# Altium footprint library 1_to_5_Pin.PcbLib: 194 footprints (part 3 of 13)
Each footprint in its own frame and in the unit in brackets; x right, y up, seen from the top. Pads: shape width x height; smd on the part's side, far side on the other; paste and mask are expansions set on the pad; w line width, h text height; cw(c..) or ccw(c..) is an arc to the next point about the centre after c.
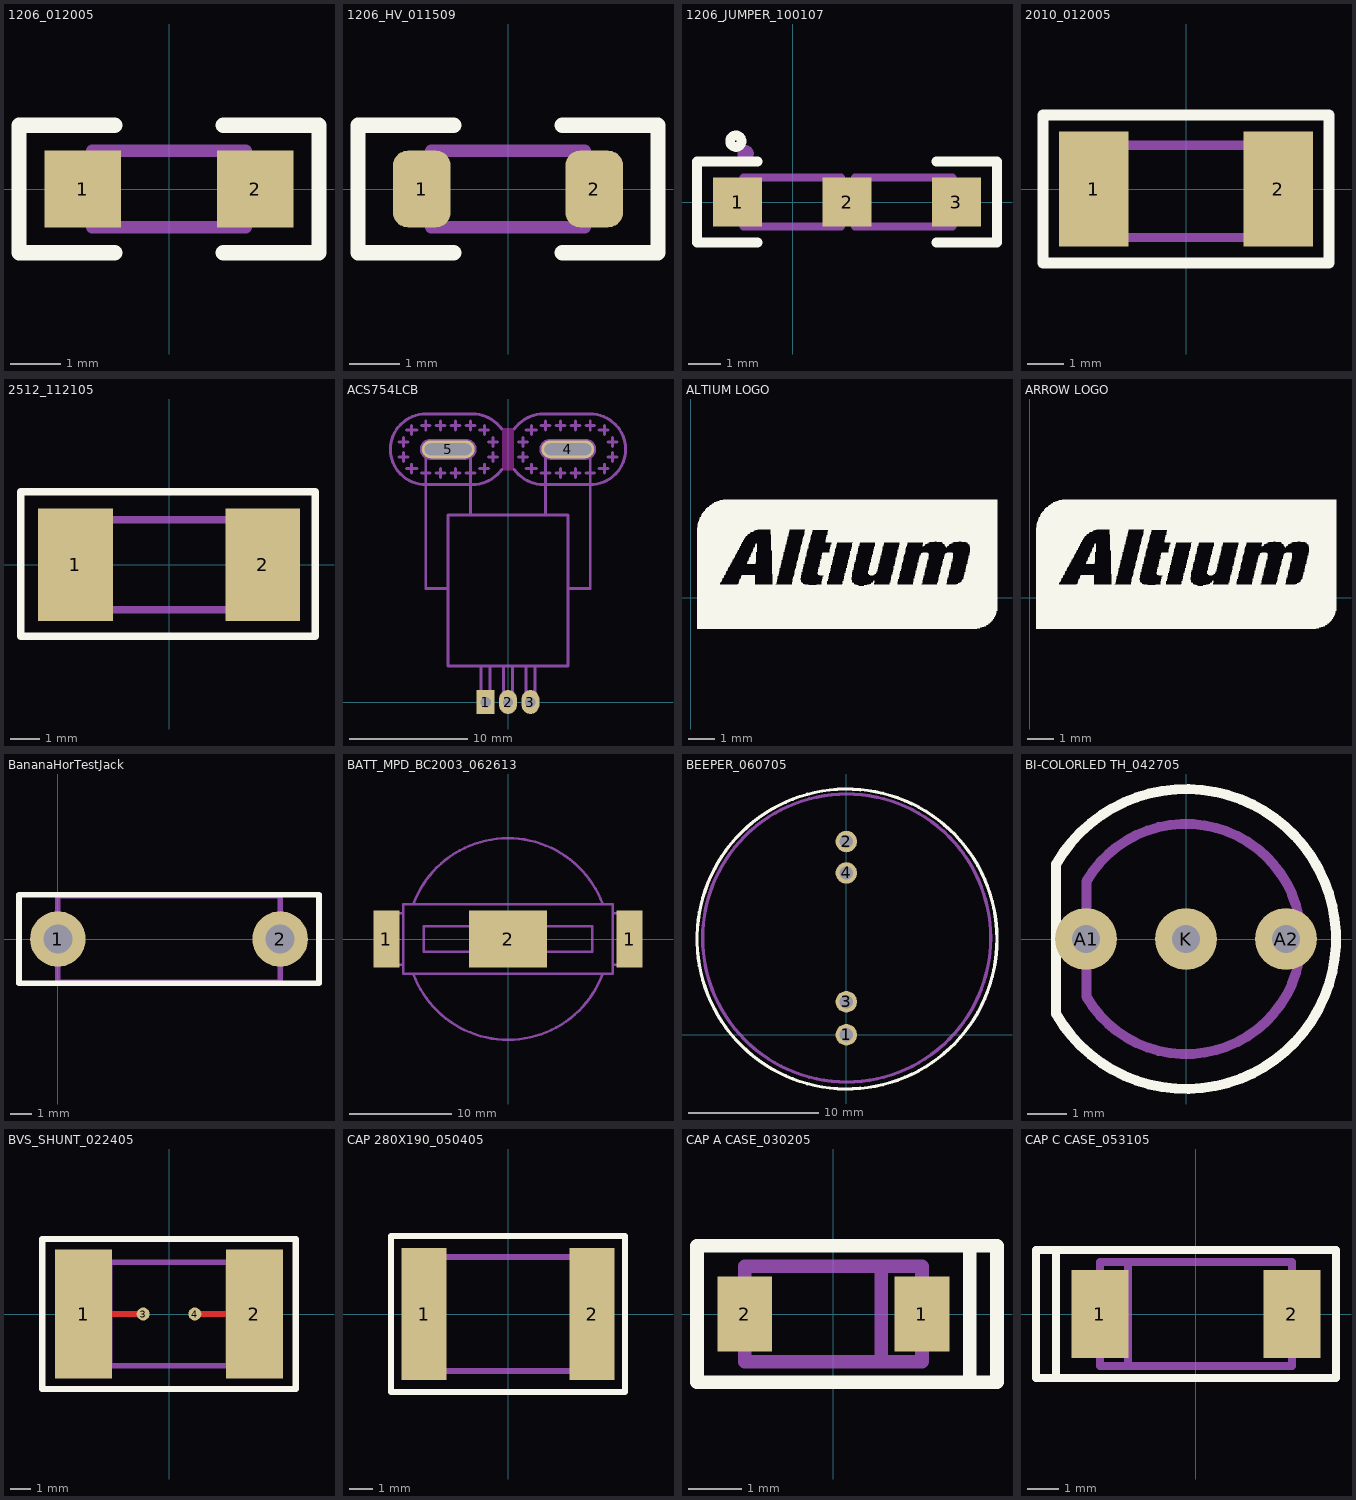
[diagram p2: the footprints below, top view; thin cyan lines are the x and y axes]

## 1206_012005 [mil] "SMT"
height 25
pads (2):
  rect 60x60 smd: 1(-67.5,0) 2(67.5,0)
Top Overlay:
  lines w12: -42.5,-50 -117.5,-50 -117.5,50 -42.5,50 ; 42.5,-50 117.5,-50 117.5,50 42.5,50
Assembly Outline:
  lines w10: -60,-30 -60,30 60,30 60,-30 -60,-30
Assembly Designator:
  text ".Designator" at -50,40 h40
Assembly Comment:
  text ".Comment" at -50,-80 h40

## 1206_HV_011509 [mil] "SMT"
height 25
pads (2):
  rrect50% 45x60 smd: 1(-67.5,0) 2(67.5,0)
Top Overlay:
  lines w12: -42.5,-50 -117.5,-50 -117.5,50 -42.5,50 ; 42.5,-50 117.5,-50 117.5,50 42.5,50
Top Solder:
  rectangle: -95,-40 95,40
Assembly Outline:
  lines w10: -60,-30 60,-30 60,30 -60,30 -60,-30
Assembly Designator:
  text ".Designator" at -50,40 h40
Assembly Comment:
  text ".Comment" at -50,-80 h40

## 1206_JUMPER_100107 [mil] "SMT"
height 25
pads (3):
  rect 60x60 smd: 1(-68,0) 2(67,0) 3(202,0)
Top Overlay:
  circle w12: c-70.07,75 r7.07
  lines w12: -43,-50 -118,-50 -118,50 -43,50 ; 177,-50 252,-50 252,50 177,50
Assembly Outline:
  circle w10: c-58,60 r5
  lines w10: -60.5,-30 59.5,-30 59.5,30 -60.5,30 -60.5,-30 ; 77,-30 77,30 197,30 197,-30 77,-30
Assembly Designator:
  text ".Designator" at -43,55 h40
Assembly Comment:
  text ".Comment" at -58,-85 h40

## 2010_012005 [mil] "SMT"
height 50
pads (2):
  rect 75x125 smd: 1(-100,0) 2(100,0)
Top Overlay:
  lines w12: -155,-80 -155,80 -60,80 155,80 155,-80 -155,-80
Assembly Outline:
  lines w10: -100,-52.5 100,-52.5 100,47.5 -100,47.5 -100,-52.5
Assembly Designator:
  text ".Designator" at -55,-15 h40
Assembly Comment:
  text ".Comment" at -150,-105 h40

## 2512_112105 [mil] "SMT"
height 50
pads (2):
  rect 100x150 smd: 1(-125,0) 2(125,0)
Top Overlay:
  lines w10: -197.5,-95 195,-95 195,97.5 -197.5,97.5 -197.5,-95
Assembly Outline:
  lines w10: -125,-60 -125,60 125,60 125,-60 -125,-60
Assembly Designator:
  text ".Designator" at -37.4,-17.72 h40
Assembly Comment:
  text ".Comment" at -172.24,-137.8 h40

## ACS754LCB [mil] "TH"
height 225
pads (5):
  rect 60x80 hole 35: 1(-75,0)
  oval 60x80 hole 35: 2(0,0) 3(75,0)
  oval 177x60 hole 39 slot 157 at 0 deg: 4(200,845) 5(-200,845)
Keep-Out Layer:
  region: -20,915 -20,775 20,775 20,915
Assembly Outline:
  lines w10: -200,380 -275,380 -275,845 -125,845 -125,625 ; -90,120 -90,0 -60,0 -60,120 ; -15,120 -15,0 15,0 15,120 ; 60,120 60,0 90,0 90,120 ; 125,625 125,845 275,845 275,380 200,380 ; -200,120 -200,625 200,625 200,120 -200,120
Assembly Designator:
  text ".Designator" at -75,675 h40
Assembly Comment:
  text ".Comment" at -165,545 h40
Mechanical 11:
  lines w10: -365,820 -335,820 ; -365,870 -335,870 ; -350,805 -350,835 ; -350,855 -350,885 ; -340,780 -305,780 ; -340,910 -305,910 ; -322,765 -322,795 ; -322,895 -322,925 ; -290,765 -260,765 ; -290,925 -260,925 ; -275,750 -275,780 ; -275,910 -275,940 ; -240,765 -210,765 ; -240,925 -210,925 ; -225,750 -225,780 ; -225,910 -225,940 ; -190,765 -160,765 ; -190,925 -160,925 ; -175,750 -175,780 ; -175,910 -175,940 ; -140,765 -110,765 ; -140,925 -110,925 ; -125,750 -125,780 ; -125,910 -125,940 ; -95,780 -65,780 ; -95,910 -65,910 ; -78,765 -78,795 ; -78,895 -78,925 ; -65,820 -35,820 ; -65,870 -35,870 ; -50,805 -50,835 ; -50,855 -50,885 ; -21.34,777.32 cw(c-118,845) -118,727 -275,727 cw(c-275,845) -275,963 -118,963 cw(c-118,845) -21.34,912.68 ; 21.34,777.32 ccw(c118,845) 118,727 275,727 ccw(c275,845) 275,963 118,963 ccw(c118,845) 21.34,912.68 ; 35,820 65,820 ; 35,870 65,870 ; 50,805 50,835 ; 50,855 50,885 ; 60,780 95,780 ; 60,910 95,910 ; 78,765 78,795 ; 78,895 78,925 ; 110,765 140,765 ; 110,925 140,925 ; 125,750 125,780 ; 125,910 125,940 ; 160,765 190,765 ; 160,925 190,925 ; 175,750 175,780 ; 175,910 175,940 ; 210,765 240,765 ; 210,925 240,925 ; 225,750 225,780 ; 225,910 225,940 ; 260,765 290,765 ; 260,925 290,925 ; 275,750 275,780 ; 275,910 275,940 ; 305,780 335,780 ; 305,910 335,910 ; 322,765 322,795 ; 322,895 322,925 ; 335,820 365,820 ; 335,870 365,870 ; 350,805 350,835 ; 350,855 350,885 ; -260,815 cw(c-260,845) -260,875 -140,875 cw(c-140,845) -140,815 -260,815 ; 140,815 cw(c140,845) 140,875 260,875 cw(c260,845) 260,815 140,815
  text "Vias 40 x 20" at -215,670 h40

## ALTIUM LOGO [mil] "LOGO"
Top Overlay:
  drawing of 845 lines, arcs and shapes, not listed

## ARROW LOGO [mil] "LOGO"
Top Overlay:
  drawing of 845 lines, arcs and shapes, not listed

## BananaHorTestJack [mil] "TH"
height 220
pads (2):
  round 100 hole 52: 1(0,0) 2(400,0)
Top Overlay:
  lines w10: -70,-80 -70,80 470,80 470,-80 -70,-80
Assembly Outline:
  lines w10: 0,-78 0,78 400,78 400,-78 0,-78
Assembly Designator:
  text ".Designator" at 140,-20 h40
Assembly Comment:
  text ".Comment" at 40,-130 h40

## BATT_MPD_BC2003_062613 [mil] "CR2032 Battery Holder"
height 140
pads (3):
  rect 100x220 smd: 1(-470,0) 1(470,0)
  rect 300x220 smd: 2(0,0)
Assembly Outline:
  lines w10: -366.37,133.68 cw(c0,0) 365.78,135.29 ; -365.78,-135.29 ccw(c0,0) 366.37,-133.68 ; -405,-100 -405,100 ; -405,-100 -500,-100 -500,100 -405,100 ; -405,-100 -405,-135 405,-135 405,-100 ; -405,100 -405,135 405,135 405,100 ; 405,-100 405,100 ; 405,-100 500,-100 500,100 405,100 ; -325,-50 -150,-50 ccw(c-150,0) -150,50 -325,50 -325,-50 ; 150,-50 cw(c150,0) 150,50 325,50 325,-50 150,-50
Assembly Designator:
  text ".Designator" at -55,-180 h30
Assembly Comment:
  text ".Comment" at -390,-435 h30

## BEEPER_060705 [mil] "TH"
height 200
pads (4):
  round 65 hole 40: 1(0,0) 2(0,585) 3(0,100) 4(0,490)
Top Overlay:
  circle w10: c2,290 r454.09
Assembly Outline:
  circle w10: c1,293 r436
Assembly Designator:
  text ".Designator" at -50,280 h40
Assembly Comment:
  text ".Comment" at -155,210 h40

## BI-COLORLED TH_042705 [mil] "TH"
height 450
pads (3):
  round 62 hole 28: A1(-100,0) A2(100,0) K(0,0)
Top Overlay:
  lines w10: -130,-75 -130,75 ; -129.9,-75 ccw(c0,0) -129.9,75
Assembly Outline:
  lines w10: -99.69,-57.55 ccw(c0,0) -99.69,57.55 -99.69,-57.55
Assembly Designator:
  text ".Designator" at -45,45 h40
Assembly Comment:
  text ".Comment" at -95,-175 h40

## BVS_SHUNT_022405 [mil] "SMT"
height 200
pads (4):
  rect 110x250 smd: 1(-165,0) 2(165,0)
  round 25 smd: 3(-50,0) 4(50,0)
Top Layer:
  lines w12: -165,0 -50,0 ; 50,0 165,0
Top Overlay:
  lines w12: -245,140 -245,145 ; -245,145 245,145 245,-145 -245,-145 -245,145
Assembly Outline:
  lines w10: -200,-100 -200,100 200,100 200,-100 -200,-100
  lines w12: -115,-100 -115,100 ; 115,-100 115,100
Assembly Designator:
  text ".Designator" at -40,-25 h40
Assembly Comment:
  text ".Comment" at -185,-165 h40

## CAP 280X190_050405 [mil] "SMT"
height 115
pads (2):
  rect 75x220 smd: 1(-140,0) 2(140,0)
Top Overlay:
  lines w10: -195,-130 0,-130 195,-130 195,105 195,130 0,130 -195,130 -195,-105 -195,-130
Assembly Outline:
  lines w10: 0,95 -140,95 ; -140,95 -140,-95 140,-95 140,95 -140,95
Assembly Designator:
  text ".Designator" at -35,-15 h40
Assembly Comment:
  text ".Comment" at -85,-180 h40

## CAP A CASE_030205 [mil] "SMT"
height 70
pads (2):
  rect 40x55 smd: 1(65,0) 2(-65,0)
Top Overlay:
  lines w10: 100,-50 100,50 ; 100,-50 -35,-50 -100,-50 -100,50 100,50 ; 100,-50 120,-50 120,50 100,50
Assembly Outline:
  lines w10: -65,0 -65,35 ; 0,-35 -65,-35 ; 35,-35 35,35 ; -65,-35 65,-35 65,35 -65,35 ; -65,-35 -65,35
Assembly Designator:
  text ".Designator" at -20,-20 h40
Assembly Comment:
  text ".Comment" at -85,45 h40

## CAP C CASE_053105 [mm] "SMT"
height 2.54
pads (2):
  rect 1.8x2.8 smd: 1(-3.048,0) 2(3.048,0)
Top Overlay:
  lines w0.254: -4.445,-2.032 4.445,-2.032 4.445,2.032 0.762,2.032 -4.445,2.032 ; -4.445,-2.032 -4.445,2.032 ; -4.445,-2.032 -5.08,-2.032 -5.08,2.032 -4.445,2.032
Assembly Outline:
  lines w0.254: -2.159,-1.651 -2.159,1.651 ; 0,1.651 3.048,1.651 ; 3.048,0 3.048,-1.651 ; 3.048,-1.651 3.048,1.651 ; 3.048,-1.651 -3.048,-1.651 -3.048,1.651 3.048,1.651
Assembly Designator:
  text ".Designator" at -1.143,-0.381 h1.02
Assembly Comment:
  text ".Comment" at -3.429,-3.175 h1.02